# EAGLE library part STK428-430 (library Audio-Power-amlifier V.2.0)
SANYO CLASS-D AUDIO 2x150W POWER AMPLIFIERS
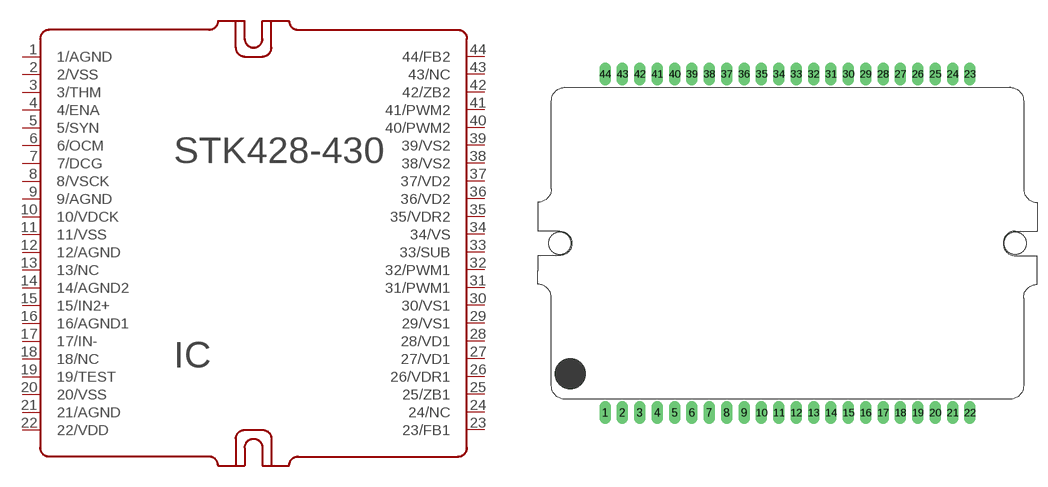
[diagram p95: symbol with the pads of STK428-430; footprint STK428-430]

Designator prefix IC

## STK428-430  [STK428-430]
1  1/AGND  pwr
2  2/VSS  pwr
3  3/THM
4  4/ENA
5  5/SYN
6  6/OCM
7  7/DCG
8  8/VSCK
9  9/AGND  pwr
10  10/VDCK
11  11/VSS  pwr
12  12/AGND  pwr
13  13/NC  nc
14  14/AGND2  pwr
15  15/IN2+  in
16  16/AGND1  pwr
17  17/IN-  in
18  18/NC  nc
19  19/TEST
20  20/VSS  pwr
21  21/AGND  pwr
22  22/VDD  pwr
23  23/FB1
24  24/NC  nc
25  25/ZB1
26  26/VDR1
27  27/VD1
28  28/VD1
29  29/VS1
30  30/VS1
31  31/PWM1
32  32/PWM1
33  33/SUB
34  34/VS
35  35/VDR2
36  36/VD2
37  37/VD2
38  38/VS2
39  39/VS2
40  40/PWM2
41  41/PWM2
42  42/ZB2
43  43/NC  nc
44  44/FB2

## Footprint STK428-430 (pad centres in mm)
drill 0.7 pad 1.676 long: 1 -26.67,-24.75; 2 -24.13,-24.75; 3 -21.59,-24.75; 4 -19.05,-24.75; 5 -16.51,-24.75; 6 -13.97,-24.75; 7 -11.43,-24.75; 8 -8.89,-24.75; 9 -6.35,-24.75; 10 -3.81,-24.75; 11 -1.27,-24.75; 12 1.27,-24.75; 13 3.81,-24.75; 14 6.35,-24.75; 15 8.89,-24.75; 16 11.43,-24.75; 17 13.97,-24.75; 18 16.51,-24.75; 19 19.05,-24.75; 20 21.59,-24.75; 21 24.13,-24.75; 22 26.67,-24.75; 23 26.67,24.75; 24 24.13,24.75; 25 21.59,24.75; 26 19.05,24.75; 27 16.51,24.75; 28 13.97,24.75; 29 11.43,24.75; 30 8.89,24.75; 31 6.35,24.75; 32 3.81,24.75; 33 1.27,24.75; 34 -1.27,24.75; 35 -3.81,24.75; 36 -6.35,24.75; 37 -8.89,24.75; 38 -11.43,24.75; 39 -13.97,24.75; 40 -16.51,24.75; 41 -19.05,24.75; 42 -21.59,24.75; 43 -24.13,24.75; 44 -26.67,24.75
hole 3.2 at -33.28,0
hole 3.2 at 33.29,-0.01